# Altium schematic symbol library ds4424n&plus_.SchLib: 1 symbol
Pins are listed as number, name and electrical type; pins without a type are passive.

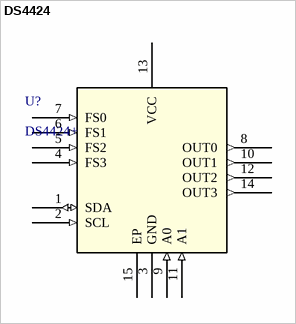
[diagram p0: symbol DS4424]

## DS4424
designator U?, comment DS4424+
Two-/Four-Channel, IÂ²C, 7-Bit Sink/Source Current DAC; Manufacturer_Name: Analog Devices Inc; Manufacturer_Part_Number: ds4424n+; Copyright: Copyright (C) 2026 Ultra Librarian. All rights reserved.; RefDes: RefDes; Type: Type
footprint 21-0137_T1433+2_MXM
pins: 1 SDA (io), 2 SCL (in), 3 GND (power), 4 FS3 (in), 5 FS2 (in), 6 FS1 (in), 7 FS0 (in), 8 OUT0 (out), 9 A0 (in), 10 OUT1 (out), 11 A1 (in), 12 OUT2 (out), 13 VCC (power), 14 OUT3 (out), 15 EP